# Altium schematic symbol library inhibits2.SchLib: 4 symbols
Pins are listed as number, name and electrical type; pins without a type are passive.

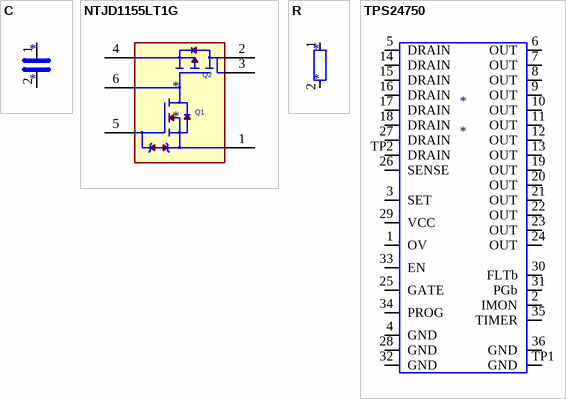
[diagram p0: symbols C to TPS24750]

## C
designator *
pins: 1, 2

## NTJD1155LT1G
designator *
pins: 1, 2, 3, 4, 5, 6
text: Q2; Q1

## R
designator *
pins: 1, 2

## TPS24750
designator *
pins: 1 OV, 2 IMON, 3 SET, 4 GND, 5 DRAIN, 6 OUT, 7 OUT, 8 OUT, 9 OUT, 10 OUT, 11 OUT, 12 OUT, 13 OUT, 14 DRAIN, 15 DRAIN, 16 DRAIN, 17 DRAIN, 18 DRAIN, 19 OUT, 20 OUT, 21 OUT, 22 OUT, 23 OUT, 24 OUT, 25 GATE, 26 SENSE, 27 DRAIN, 28 GND, 29 VCC, 30 FLTb, 31 PGb, 32 GND, 33 EN, 34 PROG, 35 TIMER, 36 GND, TP1 GND, TP2 DRAIN